# Altium schematic symbol library Wilamp-st.SchLib: 4 symbols
Pins are listed as number, name and electrical type; pins without a type are passive.

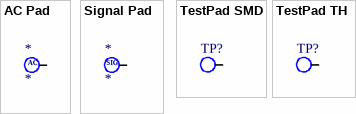
[diagram p0: symbols AC Pad to TestPad TH]

## AC Pad
designator *
footprint AC pad (Hole2.4mm_Pad4.2mm)
pins: 1
text: AC

## Signal Pad
designator *
footprint SIG_PAD (Hole1.3mm_Pad2.2mm)
pins: 1
text: SIG

## TestPad SMD
designator TP?  (value not drawn)
footprint TestPad SMD
pins: 1

## TestPad TH
designator TP?  (value not drawn)
footprint TestPad TH
pins: 1